# EAGLE library part MX150_8_PIN (library Connectors)
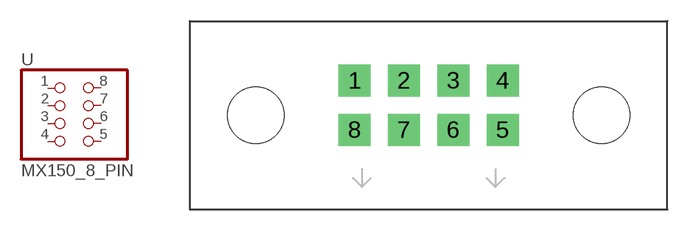
[diagram p1: symbol with the pads of MX150_8; footprint MX150_8]

Designator prefix U

## MX150_8_PIN  [MX150_8]
1  1  pas
2  3  pas
3  5  pas
4  7  pas
5  8  pas
6  6  pas
7  4  pas
8  2  pas

## Footprint MX150_8 (pad centres in mm)
drill 1.5 square: 1 -5.25,2.46; 2 -1.75,2.46; 3 1.75,2.46; 4 5.25,2.46; 5 5.25,-1.04; 6 1.75,-1.04; 7 -1.75,-1.04; 8 -5.25,-1.04
hole 4 at -12.25,0
hole 4 at 12.25,0